# EAGLE library part MC33152DG (library On Semiconductor)
High Speed Dual MOSFET Drivers
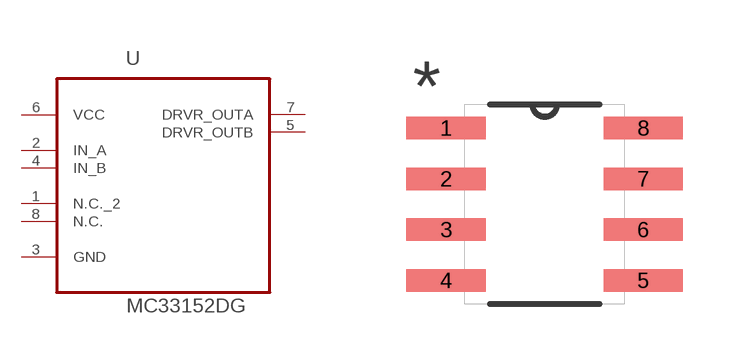
[diagram p346: symbol with the pads of SOIC127P600X175-8N; footprint SOIC127P600X175-8N]

Designator prefix U

## MC33152DG (MPN: MC33152DG; OC_FARNELL: 1191817; OC_NEWARK: 26K4001; PACKAGE: SOIC-8; SUPPLIER: ON SEMICONDUCTOR)  [SOIC127P600X175-8N]
1  N.C._2  nc
2  IN_A  in
3  GND  pas
4  IN_B  in
5  DRVR_OUTB  out
6  VCC  pwr
7  DRVR_OUTA  out
8  N.C.  nc

## Footprint SOIC127P600X175-8N (pad centres in mm)
smd 1.981 x 0.559: 1 -2.464,1.905; 2 -2.464,0.635; 3 -2.464,-0.635; 4 -2.464,-1.905; 5 2.464,-1.905; 6 2.464,-0.635; 7 2.464,0.635; 8 2.464,1.905